# EAGLE library part WIRL-BTLE_2608011124010 (library WIRL)
Proteus-II - Bluetooth Smart 5.0 Module WIRL-BTLE Bluetooth smart 5.0 Standard-RF Pad Details see: https://we-online.de/katalog/en/article/2608011124010/
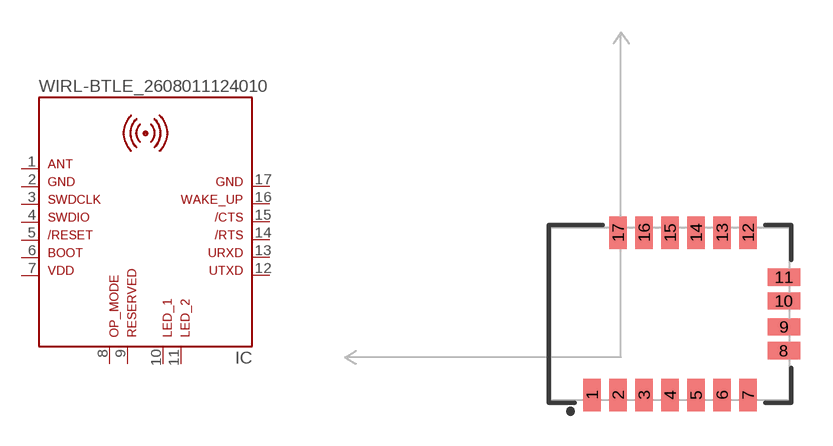
[diagram p25: symbol with the pads of WE-FP-4; footprint WE-FP-4]

Designator prefix IC

## WIRL-BTLE_2608011124010 (DATASHEET: https://www.we-online.com/redexpert/spec/2608011124010?ae; HEIGHT: 2mm; MANUFACTURER: Würth Elektronik; MOUNT: SMT; PART-NUMBER: 2608011124010; PREFIX: IC; VALUE: 2608011124010)  [WE-FP-4]
1  1  pas
2  2  pas
3  3  pas
4  4  pas
5  5  in
6  6  in
7  7  pas
8  8  in
9  9  pas
10  10  out
11  11  out
12  12  out
13  13  in
14  14  out
15  15  in
16  16  pas
17  17  pas

## Footprint WE-FP-4 (pad centres in mm)
smd 0.8 x 1.5: 1 -3.6,-3.75; 2 -2.4,-3.75; 3 -1.2,-3.75; 4 0,-3.75; 5 1.2,-3.75; 6 2.4,-3.75; 7 3.6,-3.75; 12 3.6,3.75; 13 2.4,3.75; 14 1.2,3.75; 15 0,3.75; 16 -1.2,3.75; 17 -2.4,3.75
smd 1.5 x 0.8: 8 5.25,-1.7; 9 5.25,-0.6; 10 5.25,0.6; 11 5.25,1.7